# EAGLE library part PIC10F2* (library microchip)
uPC nW 0,25/0,5k Program Flash memory Comparator
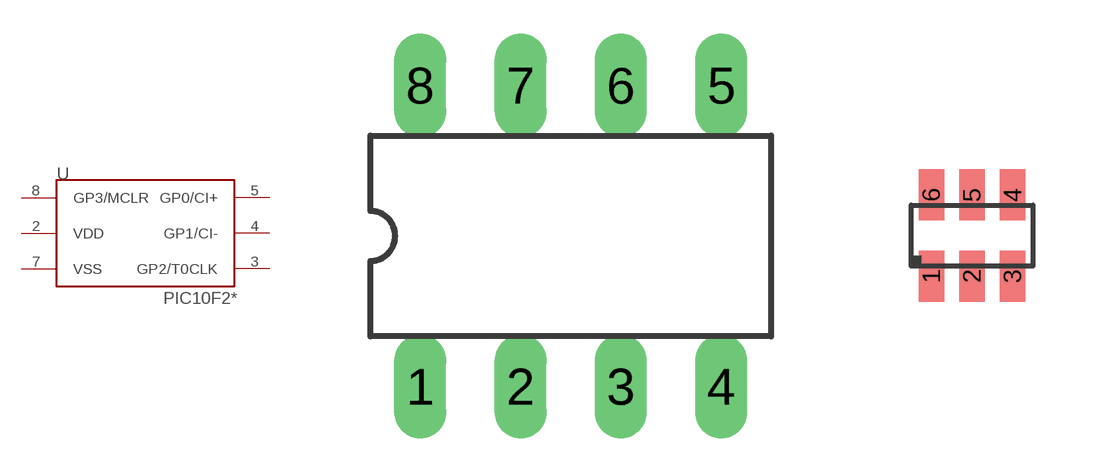
[diagram p58: symbol with the pads of DIL8; footprints DIL8, SOT23-6]

Designator prefix -

## PIC10F204P, PIC10F206P  [DIL8]
2  VDD  pwr
3  GP2/T0CLK
4  GP1/CI-
5  GP0/CI+
7  VSS  pwr
8  GP3/MCLR  in

## PIC10F202OT, PIC10F204OT  [SOT23-6]
1  GP0/CI+
2  VSS  pwr
3  GP1/CI-
4  GP2/T0CLK
5  VDD  pwr
6  GP3/MCLR  in

## Footprint DIL8 (pad centres in mm)
Dual In Line package type P
drill 0.813 long: 1 -3.81,-3.81; 2 -1.27,-3.81; 3 1.27,-3.81; 4 3.81,-3.81; 5 3.81,3.81; 6 1.27,3.81; 7 -1.27,3.81; 8 -3.81,3.81

## Footprint SOT23-6 (pad centres in mm)
SMD 3x1,75mm /6pin
smd 0.635 x 1.27: 1 -1.016,-1.016; 2 0,-1.016; 3 1.016,-1.016; 4 1.016,1.016; 5 0,1.016; 6 -1.016,1.016